# Altium footprint library Taiyo_Yuden_FBMH4532HM681.PcbLib: 1 footprints
Each footprint in its own frame and in the unit in brackets; x right, y up, seen from the top. Pads: shape width x height; smd on the part's side, far side on the other; paste and mask are expansions set on the pad; w line width, h text height; cw(c..) or ccw(c..) is an arc to the next point about the centre after c.
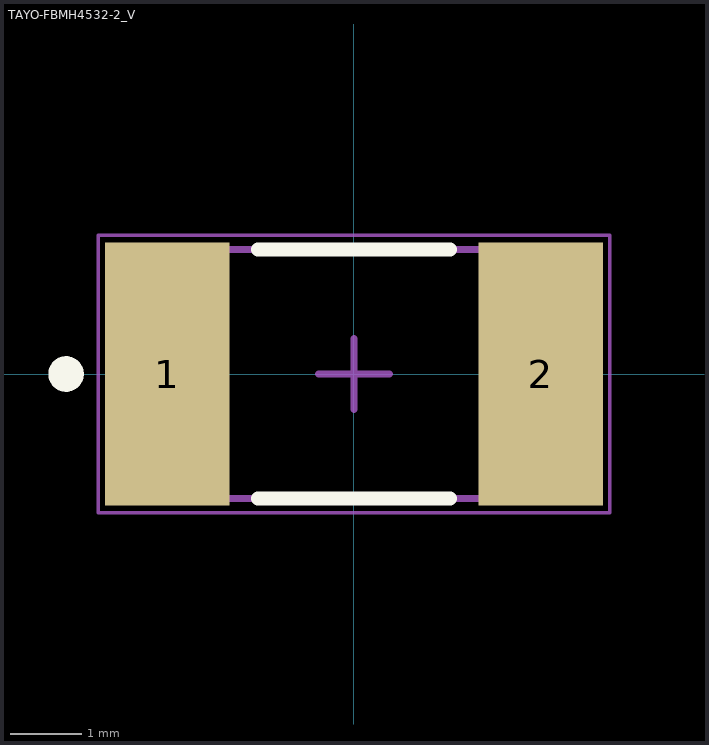
[diagram p0: the footprint, top view; thin cyan lines are the x and y axes]

## TAYO-FBMH4532-2_V [mm] "SMD, 2-Leads, Body 4.9x3.5mm, Height 3.5mm"
height 3.5
pads (2):
  rect 1.75x3.7 smd: 1(-2.625,0) 2(2.625,0)
Top Overlay:
  circle w0.25: c-4.05,0 r0.125
  lines w0.2: -1.35,-1.75 1.35,-1.75 ; -1.35,1.75 1.35,1.75
Mechanical 13:
  lines w0.1: -2.45,-1.75 -2.45,1.75 2.45,1.75 2.45,-1.75 -2.45,-1.75
Mechanical 15:
  lines w0.05: -3.6,-1.95 -3.6,1.95 3.6,1.95 3.6,-1.95 -3.6,-1.95
  lines w0.1: -0.5,0 0.5,0 ; 0,-0.5 0,0.5
3D body: height 3.5, standoff 0, extent 1.55,-1.75 2.45,1.75
3D body: height 3.5, standoff 0, extent -2.45,-1.75 -1.55,1.75
3D body: height 3.5, standoff 0, extent -1.55,-1.75 1.55,1.75